# Altium schematic symbol library opto-isolators.SchLib: 2 symbols
Pins are listed as number, name and electrical type; pins without a type are passive.

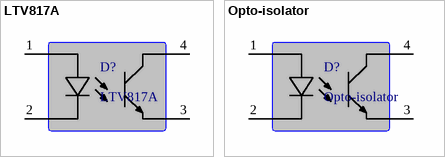
[diagram p0: symbols LTV817A to Opto-isolator]

## LTV817A
designator D?
Opto-isolator
footprint DIP4
pins: 1, 2, 3, 4

## Opto-isolator
designator D?
footprint DIP4
pins: 1, 1, 2, 2, 3, 4